# Altium footprint library Footprints.PcbLib: 6 footprints
Each footprint in its own frame and in the unit in brackets; x right, y up, seen from the top. Pads: shape width x height; smd on the part's side, far side on the other; paste and mask are expansions set on the pad; w line width, h text height; cw(c..) or ccw(c..) is an arc to the next point about the centre after c.
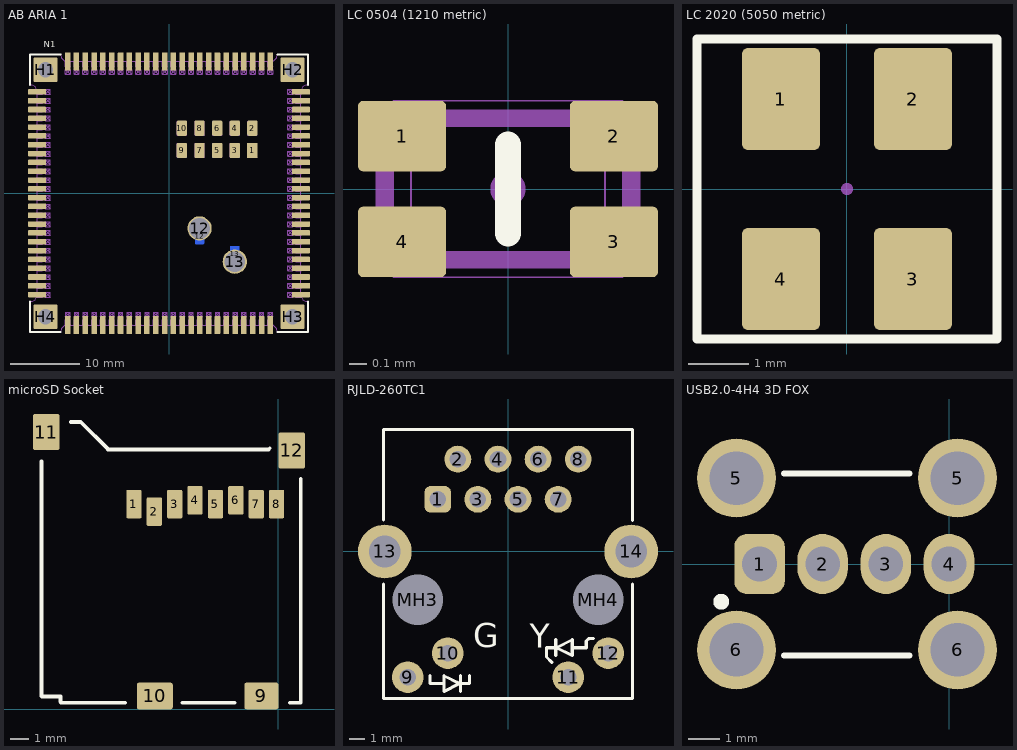
[diagram p0: the footprints below, top view; thin cyan lines are the x and y axes]

## AB ARIA 1 [mm]
pads (114):
  rect 1.5x2.2 smd paste+0.1: 1(12.02,6.17)
  rrect30% 1.5x2.2 smd paste+0.1: 2(12.02,9.38) 3(9.48,6.17) 4(9.48,9.38) 5(6.94,6.17) 6(6.94,9.38) 7(4.4,6.17) 8(4.4,9.38) 9(1.86,6.17) 10(1.86,9.38)
  rrect20% 1.3x2.25 smd far side: 12(4.4,-6.195) 13(9.48,-8.735)
  round 3.5 hole 3 paste-1 mask+0.1: 12(4.4,-5.07) 13(9.48,-9.86)
  rrect20% 2.6x0.8 smd paste+0.05: E1(19,14.605) E2(19,13.335) E3(19,12.065) E4(19,10.795) E5(19,9.525) E6(19,8.255) E7(19,6.985) E8(19,5.715) E9(19,4.445) E10(19,3.175) E11(19,1.905) E12(19,0.635) E13(19,-0.635) E14(19,-1.905) E15(19,-3.175) E16(19,-4.445) E17(19,-5.715) E18(19,-6.985) E19(19,-8.255) E20(19,-9.525) E21(19,-10.795) E22(19,-12.065) E23(19,-13.335) E24(19,-14.605) W1(-19,-14.605) W2(-19,-13.335) W3(-19,-12.065) W4(-19,-10.795) W5(-19,-9.525) W6(-19,-8.255) W7(-19,-6.985) W8(-19,-5.715) W9(-19,-4.445) W10(-19,-3.175) W11(-19,-1.905) W12(-19,-0.635) W13(-19,0.635) W14(-19,1.905) W15(-19,3.175) W16(-19,4.445) W17(-19,5.715) W18(-19,6.985) W19(-19,8.255) W20(-19,9.525) W21(-19,10.795) W22(-19,12.065) W23(-19,13.335) W24(-19,14.605)
  rrect10% 3.5x3.5 hole 2.2 mask+0.2: H1(-17.8,17.8) H2(17.8,17.8) H3(17.8,-17.8) H4(-17.8,-17.8)
  rrect20% 0.8x2.6 smd paste+0.05: N1(-14.605,19) N2(-13.335,19) N3(-12.065,19) N4(-10.795,19) N5(-9.525,19) N6(-8.255,19) N7(-6.985,19) N8(-5.715,19) N9(-4.445,19) N10(-3.175,19) N11(-1.905,19) N12(-0.635,19) N13(0.635,19) N14(1.905,19) N15(3.175,19) N16(4.445,19) N17(5.715,19) N18(6.985,19) N19(8.255,19) N20(9.525,19) N21(10.795,19) N22(12.065,19) N23(13.335,19) N24(14.605,19) S1(14.605,-19) S2(13.335,-19) S3(12.065,-19) S4(10.795,-19) S5(9.525,-19) S6(8.255,-19) S7(6.985,-19) S8(5.715,-19) S9(4.445,-19) S10(3.175,-19) S11(1.905,-19) S12(0.635,-19) S13(-0.635,-19) S14(-1.905,-19) S15(-3.175,-19) S16(-4.445,-19) S17(-5.715,-19) S18(-6.985,-19) S19(-8.255,-19) S20(-9.525,-19) S21(-10.795,-19) S22(-12.065,-19) S23(-13.335,-19) S24(-14.605,-19)
Top Overlay:
  lines w0.3: -20,-15.605 -20,-20 ; -20,15.605 -20,20 -15.605,20 ; -15.605,-20 -20,-20 ; 15.605,-20 20,-20 20,-15.605 ; 15.605,20 20,20 ; 20,15.605 20,20 ; -20,-20 -20,-20 ; -15.605,20 -15.605,20 ; 20,20 20,20
  text "N1" at -18.034,20.701 h1.52
Top Paste:
  lines w0.8: -20.75,-14.61 -20.45,-14.61 ; -20.75,-13.34 -20.45,-13.34 ; -20.75,-12.07 -20.45,-12.07 ; -20.75,-10.8 -20.45,-10.8 ; -20.75,-9.53 -20.45,-9.53 ; -20.75,-8.26 -20.45,-8.26 ; -20.75,-6.99 -20.45,-6.99 ; -20.75,-5.72 -20.45,-5.72 ; -20.75,-4.45 -20.45,-4.45 ; -20.75,-3.18 -20.45,-3.18 ; -20.75,-1.91 -20.45,-1.91 ; -20.75,-0.64 -20.45,-0.64 ; -20.75,0.63 -20.45,0.63 ; -20.75,1.9 -20.45,1.9 ; -20.75,3.17 -20.45,3.17 ; -20.75,4.44 -20.45,4.44 ; -20.75,5.71 -20.45,5.71 ; -20.75,6.98 -20.45,6.98 ; -20.75,8.25 -20.45,8.25 ; -20.75,9.52 -20.45,9.52 ; -20.75,10.79 -20.45,10.79 ; -20.75,12.06 -20.45,12.06 ; -20.75,13.33 -20.45,13.33 ; -20.75,14.6 -20.45,14.6 ; -14.61,20.45 -14.61,20.75 ; -14.6,-20.75 -14.6,-20.45 ; -13.34,20.45 -13.34,20.75 ; -13.33,-20.75 -13.33,-20.45 ; -12.07,20.45 -12.07,20.75 ; -12.06,-20.75 -12.06,-20.45 ; -10.8,20.45 -10.8,20.75 ; -10.79,-20.75 -10.79,-20.45 ; -9.53,20.45 -9.53,20.75 ; -9.52,-20.75 -9.52,-20.45 ; -8.26,20.45 -8.26,20.75 ; -8.25,-20.75 -8.25,-20.45 ; -6.99,20.45 -6.99,20.75 ; -6.98,-20.75 -6.98,-20.45 ; -5.72,20.45 -5.72,20.75 ; -5.71,-20.75 -5.71,-20.45 ; -4.45,20.45 -4.45,20.75 ; -4.44,-20.75 -4.44,-20.45 ; -3.18,20.45 -3.18,20.75 ; -3.17,-20.75 -3.17,-20.45 ; -1.91,20.45 -1.91,20.75 ; -1.9,-20.75 -1.9,-20.45 ; -0.64,20.45 -0.64,20.75 ; -0.63,-20.75 -0.63,-20.45 ; 0.63,20.45 0.63,20.75 ; 0.64,-20.75 0.64,-20.45 ; 1.9,20.45 1.9,20.75 ; 1.91,-20.75 1.91,-20.45 ; 3.17,20.45 3.17,20.75 ; 3.18,-20.75 3.18,-20.45 ; 4.44,20.45 4.44,20.75 ; 4.45,-20.75 4.45,-20.45 ; 5.71,20.45 5.71,20.75 ; 5.72,-20.75 5.72,-20.45 ; 6.98,20.45 6.98,20.75 ; 6.99,-20.75 6.99,-20.45 ; 8.25,20.45 8.25,20.75 ; 8.26,-20.75 8.26,-20.45 ; 9.52,20.45 9.52,20.75 ; 9.53,-20.75 9.53,-20.45 ; 10.79,20.45 10.79,20.75 ; 10.8,-20.75 10.8,-20.45 ; 12.06,20.45 12.06,20.75 ; 12.07,-20.75 12.07,-20.45 ; 13.33,20.45 13.33,20.75 ; 13.34,-20.75 13.34,-20.45 ; 14.6,20.45 14.6,20.75 ; 14.61,-20.75 14.61,-20.45 ; 20.45,-14.6 20.75,-14.6 ; 20.45,-13.33 20.75,-13.33 ; 20.45,-12.06 20.75,-12.06 ; 20.45,-10.79 20.75,-10.79 ; 20.45,-9.52 20.75,-9.52 ; 20.45,-8.25 20.75,-8.25 ; 20.45,-6.98 20.75,-6.98 ; 20.45,-5.71 20.75,-5.71 ; 20.45,-4.44 20.75,-4.44 ; 20.45,-3.17 20.75,-3.17 ; 20.45,-1.9 20.75,-1.9 ; 20.45,-0.63 20.75,-0.63 ; 20.45,0.64 20.75,0.64 ; 20.45,1.91 20.75,1.91 ; 20.45,3.18 20.75,3.18 ; 20.45,4.45 20.75,4.45 ; 20.45,5.72 20.75,5.72 ; 20.45,6.99 20.75,6.99 ; 20.45,8.26 20.75,8.26 ; 20.45,9.53 20.75,9.53 ; 20.45,10.8 20.75,10.8 ; 20.45,12.07 20.75,12.07 ; 20.45,13.34 20.75,13.34 ; 20.45,14.61 20.75,14.61
Bottom Solder:
  region: 10.155,7.199 8.79,7.199 8.79,5.161 10.155,5.161
  region: 10.164,10.397 8.799,10.397 8.799,8.359 10.164,8.359
  region: 12.701,10.397 11.336,10.397 11.336,8.359 12.701,8.359
Mechanical 1:
  lines w0.1: 14.605,-19 cw(c14.605,-20) 15.605,-20 20,-20 20,-15.605 cw(c20,-14.605) 19,-14.605 19,14.605 cw(c20,14.605) 20,15.605 20,20 15.605,20 cw(c14.605,20) 14.605,19 -14.605,19 cw(c-14.605,20) -15.605,20 -20,20 -20,15.605 cw(c-20,14.605) -19,14.605 -19,-14.605 cw(c-20,-14.605) -20,-15.605 -20,-20 -15.605,-20 cw(c-14.605,-20) -14.605,-19 14.655,-19
Mechanical 15:
  drawing of 1308 lines, arcs and shapes, not listed
3D body: height 2.75, standoff 0.01, extent -20.055,-20.055 20.054,20.054
3D body: height 0.02, standoff -0.03, extent 8.786,-9.433 10.18,-8.036
3D body: height 0.02, standoff -0.03, extent 3.706,-6.893 5.1,-5.496
3D body: height 0.1, standoff 0.01, extent 1.21,5.17 2.51,7.17
3D body: height 0.1, standoff 0.01, extent 3.75,5.17 5.05,7.17
3D body: height 0.1, standoff 0.01, extent 6.29,5.17 7.59,7.17
3D body: height 0.1, standoff 0.01, extent 8.83,5.17 10.13,7.17
3D body: height 0.1, standoff 0.01, extent 11.37,5.17 12.67,7.17
3D body: height 0.1, standoff 0.01, extent 1.21,8.38 2.51,10.38
3D body: height 0.1, standoff 0.01, extent 3.75,8.38 5.05,10.38
3D body: height 0.1, standoff 0.01, extent 6.29,8.38 7.59,10.38
3D body: height 0.1, standoff 0.01, extent 8.83,8.38 10.13,10.38
3D body: height 0.1, standoff 0.01, extent 11.37,8.38 12.67,10.38
3D body: height 1.51, standoff 0.01, extent -0.64,13.7 0.72,15.27
3D body: height 1.51, standoff 0.01, extent -1.599,16 1.6,17.6
3D body: height 1.51, standoff 1.4, extent 17.82,14.255 19.05,14.955
3D body: height 0.1, standoff 0.01, extent 17.12,14.255 17.82,14.955
3D body: height 1.4, standoff 0.01, extent 18.23,14.255 19.05,14.955
3D body: height 1.4, standoff 0.01, extent 18.23,12.985 19.05,13.685
3D body: height 0.1, standoff 0.01, extent 17.12,12.985 17.82,13.685
3D body: height 1.51, standoff 1.4, extent 18.23,12.985 19.05,13.685
3D body: height 1.4, standoff 0.01, extent 18.23,11.715 19.05,12.415
3D body: height 0.1, standoff 0.01, extent 17.12,11.715 17.82,12.415
3D body: height 1.51, standoff 1.4, extent 18.23,11.715 19.05,12.415
3D body: height 1.4, standoff 0.01, extent 18.23,10.445 19.05,11.145
3D body: height 0.1, standoff 0.01, extent 17.12,10.445 17.82,11.145
3D body: height 1.51, standoff 1.4, extent 18.23,10.445 19.05,11.145
3D body: height 1.4, standoff 0.01, extent 18.23,9.175 19.05,9.875
3D body: height 0.1, standoff 0.01, extent 17.12,9.175 17.82,9.875
3D body: height 1.51, standoff 1.4, extent 18.23,9.175 19.05,9.875
3D body: height 1.4, standoff 0.01, extent 18.23,7.905 19.05,8.605
3D body: height 0.1, standoff 0.01, extent 17.12,7.905 17.82,8.605
3D body: height 1.51, standoff 1.4, extent 18.23,7.905 19.05,8.605
3D body: height 1.4, standoff 0.01, extent 18.23,6.635 19.05,7.335
3D body: height 0.1, standoff 0.01, extent 17.12,6.635 17.82,7.335
3D body: height 1.51, standoff 1.4, extent 18.23,6.635 19.05,7.335
3D body: height 1.4, standoff 0.01, extent 18.23,5.365 19.05,6.065
3D body: height 0.1, standoff 0.01, extent 17.12,5.365 17.82,6.065
3D body: height 1.51, standoff 1.4, extent 18.23,5.365 19.05,6.065
3D body: height 1.4, standoff 0.01, extent 18.23,4.095 19.05,4.795
3D body: height 0.1, standoff 0.01, extent 17.12,4.095 17.82,4.795
3D body: height 1.51, standoff 1.4, extent 18.23,4.095 19.05,4.795
3D body: height 1.4, standoff 0.01, extent 18.23,2.825 19.05,3.525
3D body: height 0.1, standoff 0.01, extent 17.12,2.825 17.82,3.525
3D body: height 1.51, standoff 1.4, extent 18.23,2.825 19.05,3.525
3D body: height 1.4, standoff 0.01, extent 18.23,1.555 19.05,2.255
3D body: height 0.1, standoff 0.01, extent 17.12,1.555 17.82,2.255
3D body: height 1.51, standoff 1.4, extent 18.23,1.555 19.05,2.255
3D body: height 1.4, standoff 0.01, extent 18.23,0.285 19.05,0.985
3D body: height 0.1, standoff 0.01, extent 17.12,0.285 17.82,0.985
3D body: height 1.51, standoff 1.4, extent 18.23,0.285 19.05,0.985
3D body: height 1.4, standoff 0.01, extent 18.23,-0.985 19.05,-0.285
3D body: height 0.1, standoff 0.01, extent 17.12,-0.985 17.82,-0.285
3D body: height 1.51, standoff 1.4, extent 18.23,-0.985 19.05,-0.285
3D body: height 1.4, standoff 0.01, extent 18.23,-2.255 19.05,-1.555
3D body: height 0.1, standoff 0.01, extent 17.12,-2.255 17.82,-1.555
3D body: height 1.51, standoff 1.4, extent 18.23,-2.255 19.05,-1.555
3D body: height 1.4, standoff 0.01, extent 18.23,-3.525 19.05,-2.825
3D body: height 0.1, standoff 0.01, extent 17.12,-3.525 17.82,-2.825
3D body: height 1.51, standoff 1.4, extent 18.23,-3.525 19.05,-2.825
3D body: height 1.4, standoff 0.01, extent 18.23,-4.795 19.05,-4.095
3D body: height 0.1, standoff 0.01, extent 17.12,-4.795 17.82,-4.095
3D body: height 1.51, standoff 1.4, extent 18.23,-4.795 19.05,-4.095
3D body: height 1.4, standoff 0.01, extent 18.23,-6.065 19.05,-5.365
3D body: height 0.1, standoff 0.01, extent 17.12,-6.065 17.82,-5.365
3D body: height 1.51, standoff 1.4, extent 18.23,-6.065 19.05,-5.365
3D body: height 1.4, standoff 0.01, extent 18.23,-7.335 19.05,-6.635
3D body: height 0.1, standoff 0.01, extent 17.12,-7.335 17.82,-6.635
3D body: height 1.51, standoff 1.4, extent 18.23,-7.335 19.05,-6.635
3D body: height 1.4, standoff 0.01, extent 18.23,-8.605 19.05,-7.905
3D body: height 0.1, standoff 0.01, extent 17.12,-8.605 17.82,-7.905
3D body: height 1.51, standoff 1.4, extent 18.23,-8.605 19.05,-7.905
3D body: height 1.4, standoff 0.01, extent 18.23,-9.875 19.05,-9.175
3D body: height 0.1, standoff 0.01, extent 17.12,-9.875 17.82,-9.175
3D body: height 1.51, standoff 1.4, extent 18.23,-9.875 19.05,-9.175
3D body: height 1.4, standoff 0.01, extent 18.23,-11.145 19.05,-10.445
3D body: height 0.1, standoff 0.01, extent 17.12,-11.145 17.82,-10.445
3D body: height 1.51, standoff 1.4, extent 18.23,-11.145 19.05,-10.445
3D body: height 1.4, standoff 0.01, extent 18.23,-12.415 19.05,-11.715
3D body: height 0.1, standoff 0.01, extent 17.12,-12.415 17.82,-11.715
3D body: height 1.51, standoff 1.4, extent 18.23,-12.415 19.05,-11.715
3D body: height 1.4, standoff 0.01, extent 18.23,-13.685 19.05,-12.985
3D body: height 0.1, standoff 0.01, extent 17.12,-13.685 17.82,-12.985
3D body: height 1.51, standoff 1.4, extent 18.23,-13.685 19.05,-12.985
3D body: height 1.4, standoff 0.01, extent 18.23,-14.955 19.05,-14.255
3D body: height 0.1, standoff 0.01, extent 17.12,-14.955 17.82,-14.255
3D body: height 1.51, standoff 1.4, extent 18.23,-14.955 19.05,-14.255
3D body: height 1.4, standoff 0.01, extent 14.255,-19.05 14.955,-18.23
3D body: height 0.1, standoff 0.01, extent 14.255,-17.82 14.955,-17.12
3D body: height 1.51, standoff 1.4, extent 14.255,-19.05 14.955,-17.82
3D body: height 1.4, standoff 0.01, extent 12.985,-19.05 13.685,-18.23
3D body: height 0.1, standoff 0.01, extent 12.985,-17.82 13.685,-17.12
3D body: height 1.51, standoff 1.4, extent 12.985,-19.05 13.685,-18.23
3D body: height 1.4, standoff 0.01, extent 11.715,-19.05 12.415,-18.23
3D body: height 0.1, standoff 0.01, extent 11.715,-17.82 12.415,-17.12
3D body: height 1.51, standoff 1.4, extent 11.715,-19.05 12.415,-18.23
3D body: height 1.4, standoff 0.01, extent 10.445,-19.05 11.145,-18.23
3D body: height 0.1, standoff 0.01, extent 10.445,-17.82 11.145,-17.12
3D body: height 1.51, standoff 1.4, extent 10.445,-19.05 11.145,-18.23
3D body: height 1.4, standoff 0.01, extent 9.175,-19.05 9.875,-18.23
3D body: height 0.1, standoff 0.01, extent 9.175,-17.82 9.875,-17.12
3D body: height 1.51, standoff 1.4, extent 9.175,-19.05 9.875,-18.23
3D body: height 1.4, standoff 0.01, extent 7.905,-19.05 8.605,-18.23
3D body: height 0.1, standoff 0.01, extent 7.905,-17.82 8.605,-17.12
3D body: height 1.51, standoff 1.4, extent 7.905,-19.05 8.605,-18.23
3D body: height 1.4, standoff 0.01, extent 6.635,-19.05 7.335,-18.23
3D body: height 0.1, standoff 0.01, extent 6.635,-17.82 7.335,-17.12
3D body: height 1.51, standoff 1.4, extent 6.635,-19.05 7.335,-18.23
3D body: height 1.4, standoff 0.01, extent 5.365,-19.05 6.065,-18.23
3D body: height 0.1, standoff 0.01, extent 5.365,-17.82 6.065,-17.12
3D body: height 1.51, standoff 1.4, extent 5.365,-19.05 6.065,-18.23
3D body: height 1.4, standoff 0.01, extent 4.095,-19.05 4.795,-18.23
3D body: height 0.1, standoff 0.01, extent 4.095,-17.82 4.795,-17.12
3D body: height 1.51, standoff 1.4, extent 4.095,-19.05 4.795,-18.23
3D body: height 1.4, standoff 0.01, extent 2.825,-19.05 3.525,-18.23
3D body: height 0.1, standoff 0.01, extent 2.825,-17.82 3.525,-17.12
3D body: height 1.51, standoff 1.4, extent 2.825,-19.05 3.525,-18.23
3D body: height 1.4, standoff 0.01, extent 1.555,-19.05 2.255,-18.23
3D body: height 0.1, standoff 0.01, extent 1.555,-17.82 2.255,-17.12
3D body: height 1.51, standoff 1.4, extent 1.555,-19.05 2.255,-18.23
3D body: height 1.4, standoff 0.01, extent 0.285,-19.05 0.985,-18.23
3D body: height 0.1, standoff 0.01, extent 0.285,-17.82 0.985,-17.12
3D body: height 1.51, standoff 1.4, extent 0.285,-19.05 0.985,-18.23
3D body: height 1.4, standoff 0.01, extent -0.985,-19.05 -0.285,-18.23
3D body: height 0.1, standoff 0.01, extent -0.985,-17.82 -0.285,-17.12
3D body: height 1.51, standoff 1.4, extent -0.985,-19.05 -0.285,-18.23
3D body: height 1.4, standoff 0.01, extent -2.255,-19.05 -1.555,-18.23
3D body: height 0.1, standoff 0.01, extent -2.255,-17.82 -1.555,-17.12
3D body: height 1.51, standoff 1.4, extent -2.255,-19.05 -1.555,-18.23
3D body: height 1.4, standoff 0.01, extent -3.525,-19.05 -2.825,-18.23
3D body: height 0.1, standoff 0.01, extent -3.525,-17.82 -2.825,-17.12
3D body: height 1.51, standoff 1.4, extent -3.525,-19.05 -2.825,-18.23
3D body: height 1.4, standoff 0.01, extent -4.795,-19.05 -4.095,-18.23
3D body: height 0.1, standoff 0.01, extent -4.795,-17.82 -4.095,-17.12
3D body: height 1.51, standoff 1.4, extent -4.795,-19.05 -4.095,-18.23
3D body: height 1.4, standoff 0.01, extent -6.065,-19.05 -5.365,-18.23
3D body: height 0.1, standoff 0.01, extent -6.065,-17.82 -5.365,-17.12
3D body: height 1.51, standoff 1.4, extent -6.065,-19.05 -5.365,-18.23
3D body: height 1.4, standoff 0.01, extent -7.335,-19.05 -6.635,-18.23
3D body: height 0.1, standoff 0.01, extent -7.335,-17.82 -6.635,-17.12
3D body: height 1.51, standoff 1.4, extent -7.335,-19.05 -6.635,-18.23
3D body: height 1.4, standoff 0.01, extent -8.605,-19.05 -7.905,-18.23
3D body: height 0.1, standoff 0.01, extent -8.605,-17.82 -7.905,-17.12
3D body: height 1.51, standoff 1.4, extent -8.605,-19.05 -7.905,-18.23
3D body: height 1.4, standoff 0.01, extent -9.875,-19.05 -9.175,-18.23
3D body: height 0.1, standoff 0.01, extent -9.875,-17.82 -9.175,-17.12
3D body: height 1.51, standoff 1.4, extent -9.875,-19.05 -9.175,-18.23
3D body: height 1.4, standoff 0.01, extent -11.145,-19.05 -10.445,-18.23
3D body: height 0.1, standoff 0.01, extent -11.145,-17.82 -10.445,-17.12
3D body: height 1.51, standoff 1.4, extent -11.145,-19.05 -10.445,-18.23
3D body: height 1.4, standoff 0.01, extent -12.415,-19.05 -11.715,-18.23
3D body: height 0.1, standoff 0.01, extent -12.415,-17.82 -11.715,-17.12
3D body: height 1.51, standoff 1.4, extent -12.415,-19.05 -11.715,-18.23
3D body: height 1.4, standoff 0.01, extent -13.685,-19.05 -12.985,-18.23
3D body: height 0.1, standoff 0.01, extent -13.685,-17.82 -12.985,-17.12
3D body: height 1.51, standoff 1.4, extent -13.685,-19.05 -12.985,-18.23
3D body: height 1.4, standoff 0.01, extent -14.955,-19.05 -14.255,-18.23
3D body: height 0.1, standoff 0.01, extent -14.955,-17.82 -14.255,-17.12
3D body: height 1.51, standoff 1.4, extent -14.955,-19.05 -14.255,-18.23
3D body: height 1.4, standoff 0.01, extent -19.05,-14.955 -18.23,-14.255
3D body: height 0.1, standoff 0.01, extent -17.82,-14.955 -17.12,-14.255
3D body: height 1.51, standoff 1.4, extent -19.05,-14.955 -17.82,-14.255
3D body: height 1.4, standoff 0.01, extent -19.05,-13.685 -18.23,-12.985
3D body: height 0.1, standoff 0.01, extent -17.82,-13.685 -17.12,-12.985
3D body: height 1.51, standoff 1.4, extent -19.05,-13.685 -18.23,-12.985
3D body: height 1.4, standoff 0.01, extent -19.05,-12.415 -18.23,-11.715
3D body: height 0.1, standoff 0.01, extent -17.82,-12.415 -17.12,-11.715
3D body: height 1.51, standoff 1.4, extent -19.05,-12.415 -18.23,-11.715
3D body: height 1.4, standoff 0.01, extent -19.05,-11.145 -18.23,-10.445
3D body: height 0.1, standoff 0.01, extent -17.82,-11.145 -17.12,-10.445
3D body: height 1.51, standoff 1.4, extent -19.05,-11.145 -18.23,-10.445
3D body: height 1.4, standoff 0.01, extent -19.05,-9.875 -18.23,-9.175
3D body: height 0.1, standoff 0.01, extent -17.82,-9.875 -17.12,-9.175
3D body: height 1.51, standoff 1.4, extent -19.05,-9.875 -18.23,-9.175
3D body: height 1.4, standoff 0.01, extent -19.05,-8.605 -18.23,-7.905
3D body: height 0.1, standoff 0.01, extent -17.82,-8.605 -17.12,-7.905
3D body: height 1.51, standoff 1.4, extent -19.05,-8.605 -18.23,-7.905
3D body: height 1.4, standoff 0.01, extent -19.05,-7.335 -18.23,-6.635
3D body: height 0.1, standoff 0.01, extent -17.82,-7.335 -17.12,-6.635
3D body: height 1.51, standoff 1.4, extent -19.05,-7.335 -18.23,-6.635
3D body: height 1.4, standoff 0.01, extent -19.05,-6.065 -18.23,-5.365
3D body: height 0.1, standoff 0.01, extent -17.82,-6.065 -17.12,-5.365
3D body: height 1.51, standoff 1.4, extent -19.05,-6.065 -18.23,-5.365
3D body: height 1.4, standoff 0.01, extent -19.05,-4.795 -18.23,-4.095
3D body: height 0.1, standoff 0.01, extent -17.82,-4.795 -17.12,-4.095
3D body: height 1.51, standoff 1.4, extent -19.05,-4.795 -18.23,-4.095
3D body: height 1.4, standoff 0.01, extent -19.05,-3.525 -18.23,-2.825
3D body: height 0.1, standoff 0.01, extent -17.82,-3.525 -17.12,-2.825
3D body: height 1.51, standoff 1.4, extent -19.05,-3.525 -18.23,-2.825
3D body: height 1.4, standoff 0.01, extent -19.05,-2.255 -18.23,-1.555
3D body: height 0.1, standoff 0.01, extent -17.82,-2.255 -17.12,-1.555
3D body: height 1.51, standoff 1.4, extent -19.05,-2.255 -18.23,-1.555
3D body: height 1.4, standoff 0.01, extent -19.05,-0.985 -18.23,-0.285
3D body: height 0.1, standoff 0.01, extent -17.82,-0.985 -17.12,-0.285
3D body: height 1.51, standoff 1.4, extent -19.05,-0.985 -18.23,-0.285
3D body: height 1.4, standoff 0.01, extent -19.05,0.285 -18.23,0.985
3D body: height 0.1, standoff 0.01, extent -17.82,0.285 -17.12,0.985
3D body: height 1.51, standoff 1.4, extent -19.05,0.285 -18.23,0.985
3D body: height 1.4, standoff 0.01, extent -19.05,1.555 -18.23,2.255
3D body: height 0.1, standoff 0.01, extent -17.82,1.555 -17.12,2.255
3D body: height 1.51, standoff 1.4, extent -19.05,1.555 -18.23,2.255
3D body: height 1.4, standoff 0.01, extent -19.05,2.825 -18.23,3.525
3D body: height 0.1, standoff 0.01, extent -17.82,2.825 -17.12,3.525
3D body: height 1.51, standoff 1.4, extent -19.05,2.825 -18.23,3.525
3D body: height 1.4, standoff 0.01, extent -19.05,4.095 -18.23,4.795
3D body: height 0.1, standoff 0.01, extent -17.82,4.095 -17.12,4.795
3D body: height 1.51, standoff 1.4, extent -19.05,4.095 -18.23,4.795
3D body: height 1.4, standoff 0.01, extent -19.05,5.365 -18.23,6.065
3D body: height 0.1, standoff 0.01, extent -17.82,5.365 -17.12,6.065
3D body: height 1.51, standoff 1.4, extent -19.05,5.365 -18.23,6.065
3D body: height 1.4, standoff 0.01, extent -19.05,6.635 -18.23,7.335
3D body: height 0.1, standoff 0.01, extent -17.82,6.635 -17.12,7.335
3D body: height 1.51, standoff 1.4, extent -19.05,6.635 -18.23,7.335
3D body: height 1.4, standoff 0.01, extent -19.05,7.905 -18.23,8.605
3D body: height 0.1, standoff 0.01, extent -17.82,7.905 -17.12,8.605
3D body: height 1.51, standoff 1.4, extent -19.05,7.905 -18.23,8.605
3D body: height 1.4, standoff 0.01, extent -19.05,9.175 -18.23,9.875
3D body: height 0.1, standoff 0.01, extent -17.82,9.175 -17.12,9.875
3D body: height 1.51, standoff 1.4, extent -19.05,9.175 -18.23,9.875
3D body: height 1.4, standoff 0.01, extent -19.05,10.445 -18.23,11.145
3D body: height 0.1, standoff 0.01, extent -17.82,10.445 -17.12,11.145
3D body: height 1.51, standoff 1.4, extent -19.05,10.445 -18.23,11.145
3D body: height 1.4, standoff 0.01, extent -19.05,11.715 -18.23,12.415
3D body: height 0.1, standoff 0.01, extent -17.82,11.715 -17.12,12.415
3D body: height 1.51, standoff 1.4, extent -19.05,11.715 -18.23,12.415
3D body: height 1.4, standoff 0.01, extent -19.05,12.985 -18.23,13.685
3D body: height 0.1, standoff 0.01, extent -17.82,12.985 -17.12,13.685
3D body: height 1.51, standoff 1.4, extent -19.05,12.985 -18.23,13.685
3D body: height 1.4, standoff 0.01, extent -19.05,14.255 -18.23,14.955
3D body: height 0.1, standoff 0.01, extent -17.82,14.255 -17.12,14.955
3D body: height 1.51, standoff 1.4, extent -19.05,14.255 -18.23,14.955
3D body: height 1.4, standoff 0.01, extent -14.955,18.23 -14.255,19.05
3D body: height 0.1, standoff 0.01, extent -14.955,17.12 -14.255,17.82
3D body: height 1.51, standoff 1.4, extent -14.955,17.82 -14.255,19.05
3D body: height 1.4, standoff 0.01, extent -13.685,18.23 -12.985,19.05
3D body: height 0.1, standoff 0.01, extent -13.685,17.12 -12.985,17.82
3D body: height 1.51, standoff 1.4, extent -13.685,18.23 -12.985,19.05
3D body: height 1.4, standoff 0.01, extent -12.415,18.23 -11.715,19.05
3D body: height 0.1, standoff 0.01, extent -12.415,17.12 -11.715,17.82
3D body: height 1.51, standoff 1.4, extent -12.415,18.23 -11.715,19.05
3D body: height 1.4, standoff 0.01, extent -11.145,18.23 -10.445,19.05
3D body: height 0.1, standoff 0.01, extent -11.145,17.12 -10.445,17.82
3D body: height 1.51, standoff 1.4, extent -11.145,18.23 -10.445,19.05
3D body: height 1.4, standoff 0.01, extent -9.875,18.23 -9.175,19.05
3D body: height 0.1, standoff 0.01, extent -9.875,17.12 -9.175,17.82
3D body: height 1.51, standoff 1.4, extent -9.875,18.23 -9.175,19.05
3D body: height 1.4, standoff 0.01, extent -8.605,18.23 -7.905,19.05
3D body: height 0.1, standoff 0.01, extent -8.605,17.12 -7.905,17.82
3D body: height 1.51, standoff 1.4, extent -8.605,18.23 -7.905,19.05
3D body: height 1.4, standoff 0.01, extent -7.335,18.23 -6.635,19.05
3D body: height 0.1, standoff 0.01, extent -7.335,17.12 -6.635,17.82
3D body: height 1.51, standoff 1.4, extent -7.335,18.23 -6.635,19.05
3D body: height 1.4, standoff 0.01, extent -6.065,18.23 -5.365,19.05
3D body: height 0.1, standoff 0.01, extent -6.065,17.12 -5.365,17.82
3D body: height 1.51, standoff 1.4, extent -6.065,18.23 -5.365,19.05
3D body: height 1.51, standoff 1.4, extent -4.795,18.23 -4.095,19.05
3D body: height 0.1, standoff 0.01, extent -4.795,17.12 -4.095,17.82
3D body: height 1.4, standoff 0.01, extent -4.795,18.23 -4.095,19.05
3D body: height 1.51, standoff 1.4, extent -3.525,18.23 -2.825,19.05
3D body: height 0.1, standoff 0.01, extent -3.525,17.12 -2.825,17.82
3D body: height 1.4, standoff 0.01, extent -3.525,18.23 -2.825,19.05
3D body: height 1.51, standoff 1.4, extent -2.255,18.23 -1.555,19.05
3D body: height 0.1, standoff 0.01, extent -2.255,17.12 -1.555,17.82
3D body: height 1.4, standoff 0.01, extent -2.255,18.23 -1.555,19.05
3D body: height 1.51, standoff 1.4, extent -0.985,18.23 -0.285,19.05
3D body: height 0.1, standoff 0.01, extent -0.985,17.12 -0.285,17.82
3D body: height 1.4, standoff 0.01, extent -0.985,18.23 -0.285,19.05
3D body: height 1.51, standoff 1.4, extent 0.285,18.23 0.985,19.05
3D body: height 0.1, standoff 0.01, extent 0.285,17.12 0.985,17.82
3D body: height 1.4, standoff 0.01, extent 0.285,18.23 0.985,19.05
3D body: height 1.51, standoff 1.4, extent 1.555,18.23 2.255,19.05
3D body: height 0.1, standoff 0.01, extent 1.555,17.12 2.255,17.82
3D body: height 1.4, standoff 0.01, extent 1.555,18.23 2.255,19.05
3D body: height 1.51, standoff 1.4, extent 2.825,18.23 3.525,19.05
3D body: height 0.1, standoff 0.01, extent 2.825,17.12 3.525,17.82
3D body: height 1.4, standoff 0.01, extent 2.825,18.23 3.525,19.05
3D body: height 1.51, standoff 1.4, extent 4.095,18.23 4.795,19.05
3D body: height 0.1, standoff 0.01, extent 4.095,17.12 4.795,17.82
3D body: height 1.4, standoff 0.01, extent 4.095,18.23 4.795,19.05
3D body: height 1.51, standoff 1.4, extent 5.365,18.23 6.065,19.05
3D body: height 0.1, standoff 0.01, extent 5.365,17.12 6.065,17.82
3D body: height 1.4, standoff 0.01, extent 5.365,18.23 6.065,19.05
3D body: height 1.51, standoff 1.4, extent 6.635,18.23 7.335,19.05
3D body: height 0.1, standoff 0.01, extent 6.635,17.12 7.335,17.82
3D body: height 1.4, standoff 0.01, extent 6.635,18.23 7.335,19.05
3D body: height 1.51, standoff 1.4, extent 7.905,18.23 8.605,19.05
3D body: height 0.1, standoff 0.01, extent 7.905,17.12 8.605,17.82
3D body: height 1.4, standoff 0.01, extent 7.905,18.23 8.605,19.05
3D body: height 1.51, standoff 1.4, extent 14.255,18.23 14.955,19.05
3D body: height 0.1, standoff 0.01, extent 14.255,17.12 14.955,17.82
3D body: height 1.4, standoff 0.01, extent 14.255,18.23 14.955,19.05
3D body: height 1.51, standoff 1.4, extent 12.985,18.23 13.685,19.05
3D body: height 0.1, standoff 0.01, extent 12.985,17.12 13.685,17.82
3D body: height 1.4, standoff 0.01, extent 12.985,18.23 13.685,19.05
3D body: height 1.51, standoff 1.4, extent 11.715,18.23 12.415,19.05
3D body: height 0.1, standoff 0.01, extent 11.715,17.12 12.415,17.82
3D body: height 1.4, standoff 0.01, extent 11.715,18.23 12.415,19.05
3D body: height 1.51, standoff 1.4, extent 10.445,18.23 11.145,19.05
3D body: height 0.1, standoff 0.01, extent 10.445,17.12 11.145,17.82
3D body: height 1.4, standoff 0.01, extent 10.445,18.23 11.145,19.05
3D body: height 1.51, standoff 1.4, extent 9.175,18.23 9.875,19.05
3D body: height 0.1, standoff 0.01, extent 9.175,17.12 9.875,17.82
3D body: height 1.4, standoff 0.01, extent 9.175,18.23 9.875,19.05

## LC 0504 (1210 metric) [mm]
height 0.8
pads (4):
  rrect15% 0.5x0.4 smd paste-0.015 mask+0.05: 1(-0.6,0.3) 2(0.6,0.3) 3(0.6,-0.3) 4(-0.6,-0.3)
Top Overlay:
  lines w0.15: 0,-0.25 0,0.25
Mechanical 13:
  lines w0.01: -0.65,-0.4 -0.55,-0.4 ; -0.65,-0.11 -0.55,-0.11 ; -0.65,0.11 -0.55,0.11 ; -0.65,0.4 -0.55,0.4 ; -0.55,-0.5 -0.55,0.5 ; 0.55,-0.5 0.55,0.5 ; 0.55,-0.4 0.65,-0.4 ; 0.55,-0.11 0.65,-0.11 ; 0.55,0.11 0.65,0.11 ; 0.55,0.4 0.65,0.4 ; -0.65,-0.5 -0.65,0.5 0.65,0.5 0.65,-0.5 -0.65,-0.5
Mechanical 15:
  circle w0.1: c0,0 r0.05
  lines w0.1: -0.7,-0.4 0.7,-0.4 0.7,0.4 -0.7,0.4 -0.7,-0.4
3D body: height 0.8, standoff 0.02, extent -0.64,-0.5 0.64,0.5
3D body: height 0.81, standoff 0.01, extent -0.65,-0.41 -0.55,-0.11
3D body: height 0.81, standoff 0.01, extent 0.55,0.11 0.65,0.4
3D body: height 0.81, standoff 0.01, extent 0.55,-0.4 0.65,-0.11
3D body: height 0.81, standoff 0.01, extent -0.65,0.11 -0.55,0.4

## LC 2020 (5050 metric) [mm]
height 4.5
pads (4):
  rrect15% 1.3x1.7 smd paste-0.015 mask+0.05: 1(-1.1,1.5) 2(1.1,1.5) 3(1.1,-1.5) 4(-1.1,-1.5)
Top Overlay:
  lines w0.15: -2.5,-2.5 -2.5,2.5 2.5,2.5 2.5,-2.5 -2.5,-2.5
Mechanical 13:
  lines w0.01: -2.5,-2.5 -2.5,2.5 2.5,2.5 2.5,-2.5 -2.5,-2.5
Mechanical 15:
  circle w0.1: c0,0 r0.05
  lines w0.1: -2.5,-2.5 -2.5,2.5 2.5,2.5 2.5,-2.5 -2.5,-2.5
3D body: height 0.45, standoff 0.01, extent -1.65,-2.25 -0.55,-0.75
3D body: height 0.45, standoff 0.01, extent 0.55,-2.25 1.65,-0.75
3D body: height 0.45, standoff 0.01, extent 0.55,0.75 1.65,2.25
3D body: height 0.45, standoff 0.01, extent -1.65,0.75 -0.55,2.25
3D body: height 4.5, standoff 0.45, extent -2.5,-2.5 2.5,2.5

## microSD Socket [mil]
height 73
pads (12):
  rrect15% 32x60 smd: 1(-305,433) 2(-262,417) 3(-219,433) 4(-176,441) 5(-133,433) 6(-90,441) 7(-47,433) 8(-4,433)
  rrect15% 72x56 smd: 9(-36,28)
  rrect15% 76x56 smd: 10(-261,28)
  rrect15% 56x76 smd: 11(-490,585) 12(28,546)
Top Overlay:
  lines w7.87: -500,522.64 -500,28 -499,27 -460,27 -460,16 ; -459,14 -323.82,14 ; -437.99,606 -417,606 -360,549 -360,548 -21,548 -18.26,550.74 ; -202.76,13.78 -92.52,13.78 ; 23.62,14 47,14 47,486.22
3D body: height 74.05, standoff 0, extent -501.97,15.75 51.18,614.17

## RJLD-260TC1 [mm] "RJ45 Ethernet connector by TAIMAG"
height 14.89
pads (16):
  rrect50% 1.7x1.7 hole 1.05: 1(-4.445,3.3)
  round 1.7 hole 1.05: 2(-3.175,5.84) 3(-1.905,3.3) 4(-0.635,5.84) 5(0.635,3.3) 6(1.905,5.84) 7(3.175,3.3) 8(4.445,5.84)
  round 2 hole 1.05: 9(-6.35,-7.95) 10(-3.81,-6.43) 11(3.81,-7.95) 12(6.35,-6.43)
  round 3.4 hole 2: 13(-7.79,0) 14(7.79,0)
  round 2.95 hole 3.2 unplated: MH3(-5.715,-3.05) MH4(5.715,-3.05)
Top Overlay:
  lines w0.2: -7.885,-2.05 -7.885,-9.296 7.885,-9.296 7.885,-2.05 ; -7.885,2 -7.885,7.71 7.885,7.71 7.885,1.975 ; -4.944,-7.839 -4.944,-8.347 -4.055,-8.347 ; -3.013,-8.855 -3.013,-7.864 ; -3.013,-8.347 -2.429,-8.347 -2.429,-7.839 ; 2.769,-7.01 2.438,-6.68 2.438,-6.094 3.023,-6.094 ; 3.023,-6.577 3.023,-5.586 ; 4.064,-6.094 4.953,-6.094 4.953,-5.664 5.105,-5.512 5.41,-5.512 ; -4.055,-8.855 -4.055,-7.864 -3.064,-8.347 -4.055,-8.855 ; 3.073,-6.094 4.064,-6.577 4.064,-5.586 3.073,-6.094
  text "Y" at 1.372,-6.096 h1.52
  text "G" at -2.21,-6.071 h1.52
3D body: height 14.57, standoff -4.22, extent -8.879,-14.283 9.021,6.723

## USB2.0-4H4 3D FOX [mm] "Connector; USB1.1, Type A, Thru-Hole; 4 Position; Right Angle"
height 13.83
pads (8):
  rrect50% 1.6x1.9 hole 1.1: 1(-6,0)
  oval 1.6x1.9 hole 1.1: 2(-4,0) 3(-2,0) 4(0,0)
  round 2.5 hole 1.7: 5(-6.73,2.72) 5(0.27,2.72) 6(-6.73,-2.72) 6(0.27,-2.72)
Top Overlay:
  circle w0.25: c-7.212,-1.194 r0.125
  lines w0.2: -5.225,-2.896 -1.259,-2.896 ; -5.225,2.864 -1.259,2.864
3D body: height 2, standoff 0, extent -7.375,-2.975 -6.025,-2.575
3D body: height 2, standoff 0, extent -7.375,2.575 -6.025,2.975
3D body: height 2, standoff 0, extent -0.499,2.575 0.851,2.975
3D body: height 2, standoff 0, extent -0.499,-2.975 0.851,-2.575
3D body: height 14.55, standoff -3.56, extent -18.518,-3.6 1.142,3.524